# EAGLE library part C8051F061 (library Zoli2_2015-02-22)
Mixed signal microcontroller
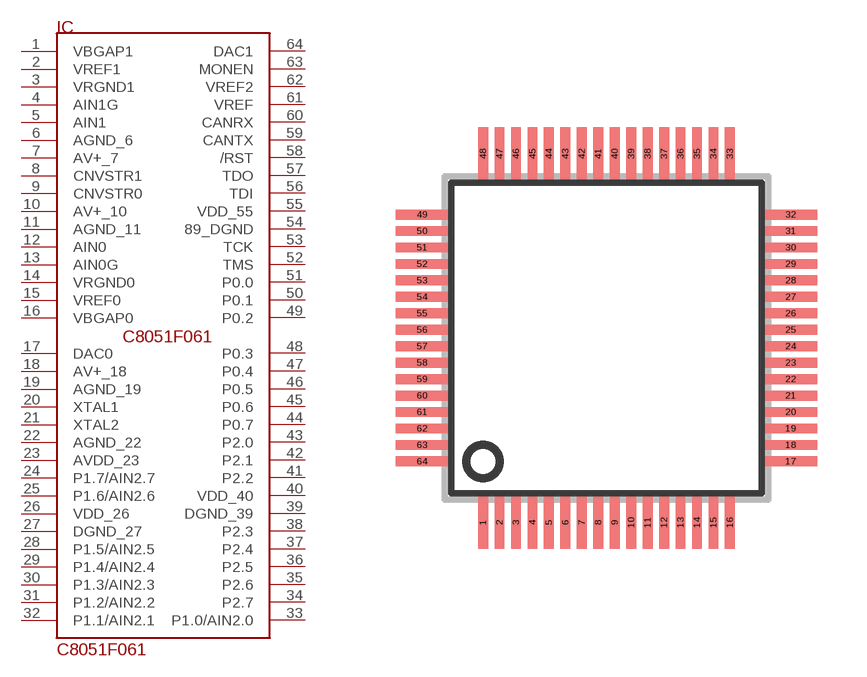
[diagram p10: symbol with the pads of SQFP-S-10X10-64; footprint SQFP-S-10X10-64]

Designator prefix IC

## C8051F061  [SQFP-S-10X10-64]
1  VBGAP1  out
2  VREF1
3  VRGND1  in
4  AIN1G  in
5  AIN1  in
6  AGND_6  pwr
7  AV+_7  pwr
8  CNVSTR1
9  CNVSTR0
10  AV+_10  pwr
11  AGND_11  pwr
12  AIN0  in
13  AIN0G  in
14  VRGND0  in
15  VREF0
16  VBGAP0  out
17  DAC0  out
18  AV+_18  pwr
19  AGND_19  pwr
20  XTAL1  in
21  XTAL2  out
22  AGND_22  pwr
23  AVDD_23  pwr
24  P1.7/AIN2.7
25  P1.6/AIN2.6
26  VDD_26  pwr
27  DGND_27  pwr
28  P1.5/AIN2.5
29  P1.4/AIN2.4
30  P1.3/AIN2.3
31  P1.2/AIN2.2
32  P1.1/AIN2.1
33  P1.0/AIN2.0
34  P2.7
35  P2.6
36  P2.5
37  P2.4
38  P2.3
39  DGND_39  pwr
40  VDD_40  pwr
41  P2.2
42  P2.1
43  P2.0
44  P0.7
45  P0.6
46  P0.5
47  P0.4
48  P0.3
49  P0.2
50  P0.1
51  P0.0
52  TMS  in
53  TCK  in
54  89_DGND  pwr
55  VDD_55  pwr
56  TDI  in
57  TDO  out
58  /RST
59  CANTX  out
60  CANRX  in
61  VREF  out
62  VREF2  in
63  MONEN  in
64  DAC1  out

## Footprint SQFP-S-10X10-64 (pad centres in mm)
QFP64 shrink quad flat pack, square
smd 0.3 x 1.6: 1 -3.75,-5.6; 2 -3.25,-5.6; 3 -2.75,-5.6; 4 -2.25,-5.6; 5 -1.75,-5.6; 6 -1.25,-5.6; 7 -0.75,-5.6; 8 -0.25,-5.6; 9 0.25,-5.6; 10 0.75,-5.6; 11 1.25,-5.6; 12 1.75,-5.6; 13 2.25,-5.6; 14 2.75,-5.6; 15 3.25,-5.6; 16 3.75,-5.6; 33 3.75,5.6; 34 3.25,5.6; 35 2.75,5.6; 36 2.25,5.6; 37 1.75,5.6; 38 1.25,5.6; 39 0.75,5.6; 40 0.25,5.6; 41 -0.25,5.6; 42 -0.75,5.6; 43 -1.25,5.6; 44 -1.75,5.6; 45 -2.25,5.6; 46 -2.75,5.6; 47 -3.25,5.6; 48 -3.75,5.6
smd 1.6 x 0.3: 17 5.6,-3.75; 18 5.6,-3.25; 19 5.6,-2.75; 20 5.6,-2.25; 21 5.6,-1.75; 22 5.6,-1.25; 23 5.6,-0.75; 24 5.6,-0.25; 25 5.6,0.25; 26 5.6,0.75; 27 5.6,1.25; 28 5.6,1.75; 29 5.6,2.25; 30 5.6,2.75; 31 5.6,3.25; 32 5.6,3.75; 49 -5.6,3.75; 50 -5.6,3.25; 51 -5.6,2.75; 52 -5.6,2.25; 53 -5.6,1.75; 54 -5.6,1.25; 55 -5.6,0.75; 56 -5.6,0.25; 57 -5.6,-0.25; 58 -5.6,-0.75; 59 -5.6,-1.25; 60 -5.6,-1.75; 61 -5.6,-2.25; 62 -5.6,-2.75; 63 -5.6,-3.25; 64 -5.6,-3.75